# EAGLE library part PROG_CONN_6 (library Badge)
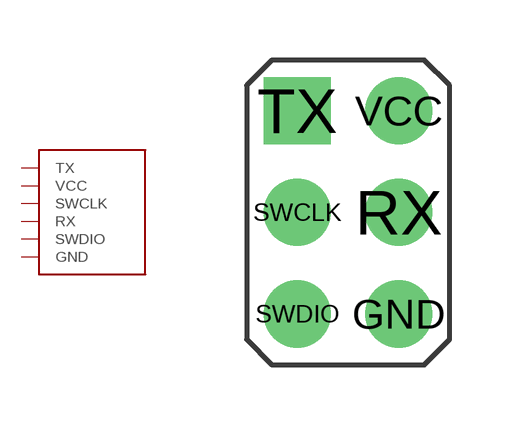
[diagram p4: symbol with the pads of TH_CONN_6; footprint TH_CONN_6]

Designator prefix J

## PROG_CONN_6  [TH_CONN_6]
GND  GND
RX  RX
SWCLK  SWCLK
SWDIO  SWDIO
TX  TX
VCC  VCC

## Footprint TH_CONN_6 (pad centres in mm)
drill 1 pad 1.676: GND 1.27,-2.54; RX 1.27,0; SWCLK -1.27,0; SWDIO -1.27,-2.54; VCC 1.27,2.54
drill 1 pad 1.676 square: TX -1.27,2.54